# EAGLE library part 610X0621121 (library Board-to-Board (rev18a))
WR-PHD 2.54mm Dual SMT Pin Header, 6 Pins =>Code : Con_BTB_PHD_2.54_2_610x0621121(packageing:x = 0: Tube x = 3: Tape & Reel with Cap; 300 pcs/Reel) <http://katalog.we-online.de/media/images/eican/Con_BTB_PHD_2.54_2_6100xx21121_pf2.jpg> 6100xx21121 Details see: http://katalog.we-online.de/en/em/610_0xx_211_21 6103xx21121 Details see: http://katalog.we-online.de/en/em/PHD_2_54_SMT_DUAL_PIN_HEADER_REEL_6103XX21121 2014 (C) Würth Elektronik
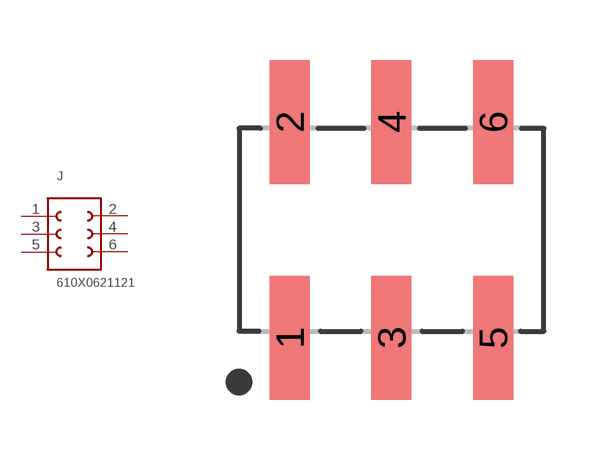
[diagram p73: symbol with the pads of 610X0621121; footprint 610X0621121]

Designator prefix J

## 610X0621121  [610X0621121]
1  1  pas
2  6  pas
3  2  pas
4  5  pas
5  3  pas
6  4  pas

## Footprint 610X0621121 (pad centres in mm)
WR-PHD 2.54mm Dual SMT Pin Header, 6 Pins
smd 1 x 3.1: 1 -2.54,-2.7; 2 -2.54,2.7; 3 0,-2.7; 4 0,2.7; 5 2.54,-2.7; 6 2.54,2.7